# Altium schematic symbol library SC4524D.Schlib: 1 symbol
Pins are listed as number, name and electrical type; pins without a type are passive.

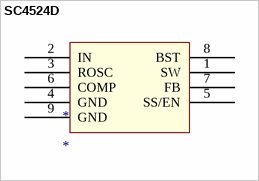
[diagram p0: symbol SC4524D]

## SC4524D
designator *
pins: 1 SW, 2 IN, 3 ROSC, 4 GND, 5 SS/EN, 6 COMP, 7 FB, 8 BST, 9 GND